# EAGLE library part X__STECKERLEISTE_16 (library ++Bedrahtet)
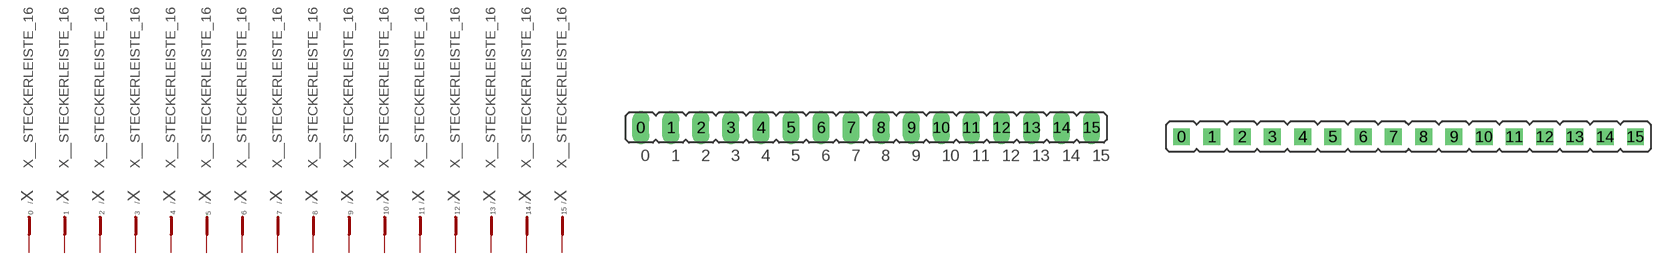
[diagram p43: symbol with the pads of STECKERLEISTE_16; footprints STECKERLEISTE_16, STECKL_16]

Designator prefix X; gates 0=STIFTPIN 1=STIFTPIN 2=STIFTPIN 3=STIFTPIN 4=STIFTPIN 5=STIFTPIN 6=STIFTPIN 7=STIFTPIN 8=STIFTPIN 9=STIFTPIN 10=STIFTPIN 11=STIFTPIN 12=STIFTPIN 13=STIFTPIN 14=STIFTPIN 15=STIFTPIN

## X__STECKERLEISTE_16  [STECKERLEISTE_16]
0  0:P
1  1:P
2  2:P
3  3:P
4  4:P
5  5:P
6  6:P
7  7:P
8  8:P
9  9:P
10  10:P
11  11:P
12  12:P
13  13:P
14  14:P
15  15:P

## X__STECKERLEISTE_16SQ  [STECKL_16]
Pads as for STECKERLEISTE_16

## Footprint STECKERLEISTE_16 (pad centres in mm)
drill 0.914 long: 0 0,0; 1 2.54,0; 2 5.08,0; 3 7.62,0; 4 10.16,0; 5 12.7,0; 6 15.24,0; 7 17.78,0; 8 20.32,0; 9 22.86,0; 10 25.4,0; 11 27.94,0; 12 30.48,0; 13 33.02,0; 14 35.56,0; 15 38.1,0

## Footprint STECKL_16 (pad centres in mm)
drill 0.914 square: 0 0,0; 1 2.54,0; 2 5.08,0; 3 7.62,0; 4 10.16,0; 5 12.7,0; 6 15.24,0; 7 17.78,0; 8 20.32,0; 9 22.86,0; 10 25.4,0; 11 27.94,0; 12 30.48,0; 13 33.02,0; 14 35.56,0; 15 38.1,0